# EAGLE library part AD725 (library m-pad-2.1)
Analog Devices AD725 Low Cost RGB to NTSC/PAL Encoder with Luma Trap Port Description: The AD725 is a very low cost general purpose RGB to NTSC/ PAL encoder that converts red, green and blue color component signals into their corresponding luminance (baseband amplitude) and chrominance (subcarrier amplitude and phase) signals in accordance with either NTSC or PAL standards. These two outputs are also combined on-chip to provide a composite video output. All three outputs are available separately at voltages of twice the standard signal levels as required for driving 75 Ohm, reverse-terminated cables. The AD725 features a luminance trap (YTRAP) pin that provides a means of reducing cross color generated by subcarrier frequency components found in the luminance signal. For portable or other power-sensitive applications, the device can be powered down to less than 1 uA of current consumption. All logic levels are TTL compatible thus supporting the logic requirements of 3 V CMOS systems. The AD725 is packaged in a low cost 16-lead SOIC and operates from a +5 V supply. Features: Composite Video Output: Both NTSC and PAL Chrominance and Luminance (S-Video) Outputs Luma Trap Port to Eliminate Cross Color Artifacts TTL Logic Levels Integrated Delay Line and Auto-Tuned Filters Drives 75 Ohm Reverse-Terminated Loads Low Power +5 V Operation Power-Down to less then 1 uA Very Low Cost Applications: RGB/VGA to NTSC/PAL Encoding Personal Computers/Network Computers Video Games Video Conference Cameras Digital Still Cameras Please send any comments to: messi@users.sourceforge.net
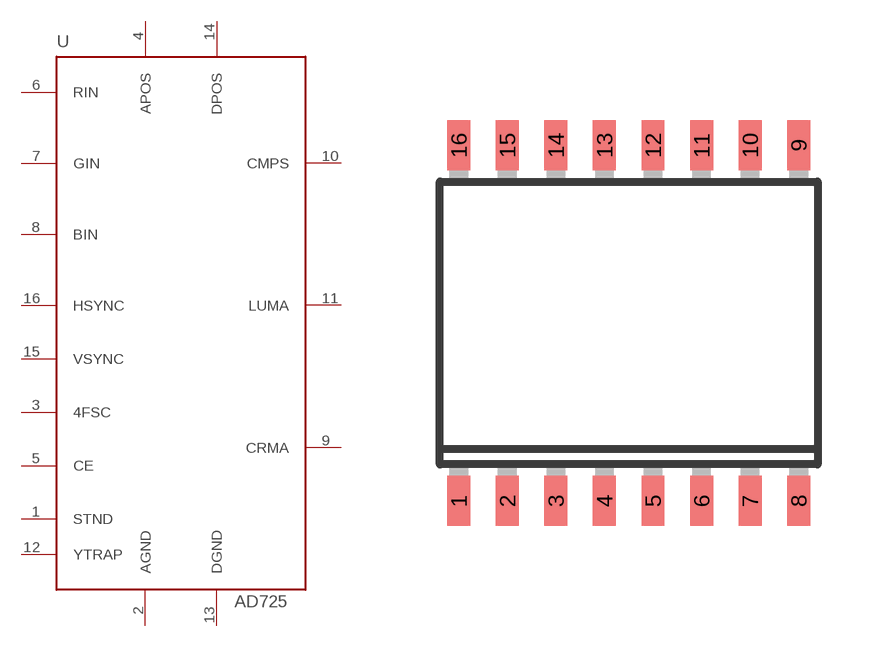
[diagram p97: symbol with the pads of SOIC16W; footprint SOIC16W]

Designator prefix U

## AD725  [SOIC16W]
1  STND  in
2  AGND  pwr
3  4FSC  in
4  APOS  pwr
5  CE  in
6  RIN  in
7  GIN  in
8  BIN  in
9  CRMA  out
10  CMPS  out
11  LUMA  out
12  YTRAP  out
13  DGND  pwr
14  DPOS  pwr
15  VSYNC  in
16  HSYNC  in

## Footprint SOIC16W (pad centres in mm)
Small Outline Package wide source www.motorola.com; BR1568.pdf
smd 0.6 x 1.3: 1 -4.445,-4.65; 2 -3.175,-4.65; 3 -1.905,-4.65; 4 -0.635,-4.65; 5 0.635,-4.65; 6 1.905,-4.65; 7 3.175,-4.65; 8 4.445,-4.65; 9 4.445,4.65; 10 3.175,4.65; 11 1.905,4.65; 12 0.635,4.65; 13 -0.635,4.65; 14 -1.905,4.65; 15 -3.175,4.65; 16 -4.445,4.65